# Altium integrated library Panasonic_ERJ_0402.IntLib: 878 symbols (part 1 of 17)
Pins are listed as number, name and electrical type; pins without a type are passive.

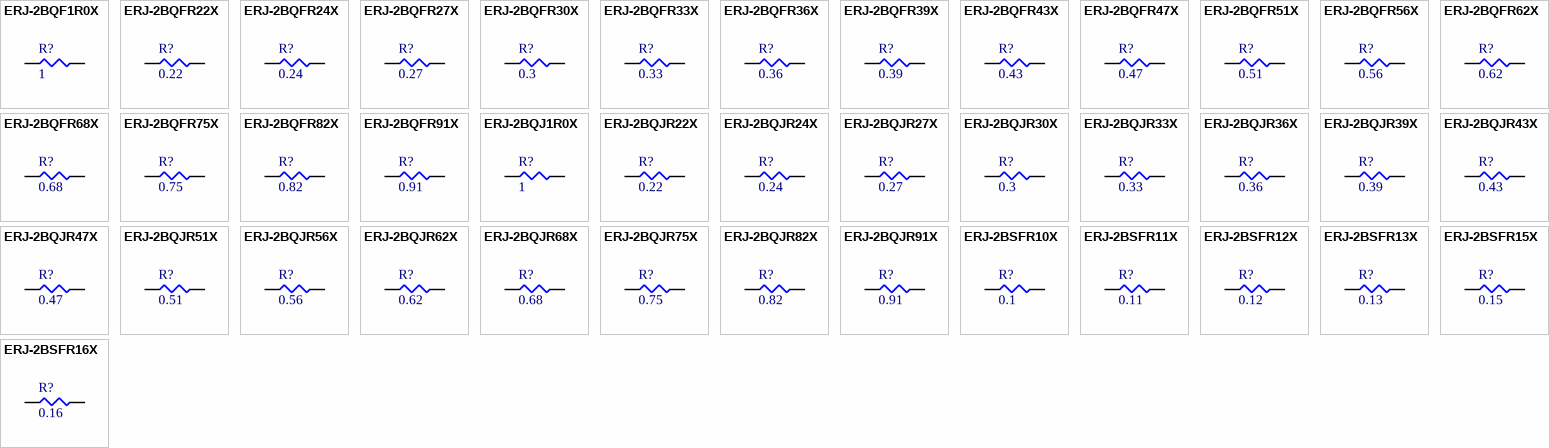
[diagram p0: symbols ERJ-2BQF1R0X to ERJ-2BSFR16X]

## ERJ-2BQF1R0X
designator R?, comment 1
RES SMD 1 OHM 1% 1/6W 0402; Part Number: ERJ-2BQF1R0X; Manufacturer: Panasonic Electronic Components; Factory Stock: 0; Unit Price (USD): 0.09843; @ qty: 1500; Power (Watts): 0.167W, 1/6W; Temperature Coefficient: ±250ppm/°C; Datasheets: https://industrial.panasonic.com/cdbs/www-data/pdf/RDA0000/AOA0000C239.pdf; Image: //media.digikey.com/Photos/Panasonic%20Photos/ERJ-PA2-Series.jpg; Digi-Key Part Number: P17252CT-ND; Quantity Available: 9090; Minimum Quantity: 1; Packaging: Cut Tape (CT); Series: ERJ; Part Status: Active; Value: 1; Tolerance: ±1%; Composition: Thick Film; Features: Automotive AEC-Q200, Current Sense; Operating Temperature: -55°C ~ 125°C; Package / Case: 0402 (1005 Metric); Supplier Device Package: 0402; Size / Dimension: 0.039" L x 0.020" W (1.00mm x 0.50mm); Height - Seated (Max): 0.016" (0.40mm); Number of Terminations: 2; Failure Rate: -
footprint SMD-0402-RES
pins: 1, 2

## ERJ-2BQFR22X
designator R?, comment 0.22
RES SMD 0.22 OHM 1% 1/6W 0402; Part Number: ERJ-2BQFR22X; Manufacturer: Panasonic Electronic Components; Factory Stock: 0; Unit Price (USD): 0.10080; @ qty: 1500; Minimum Quantity: 1; Power (Watts): 0.167W, 1/6W; Temperature Coefficient: ±250ppm/°C; Datasheets: https://industrial.panasonic.com/cdbs/www-data/pdf/RDA0000/AOA0000C239.pdf; Image: //media.digikey.com/Photos/Panasonic%20Photos/ERJ-PA2-Series.jpg; Digi-Key Part Number: P.22AKCT-ND; Quantity Available: 14922; Packaging: Cut Tape (CT); Series: ERJ; Part Status: Active; Value: 0.22; Tolerance: ±1%; Composition: Thick Film; Features: Automotive AEC-Q200, Current Sense; Operating Temperature: -55°C ~ 125°C; Package / Case: 0402 (1005 Metric); Supplier Device Package: 0402; Size / Dimension: 0.039" L x 0.020" W (1.00mm x 0.50mm); Height - Seated (Max): 0.016" (0.40mm); Number of Terminations: 2; Failure Rate: -
footprint SMD-0402-RES
pins: 1, 2

## ERJ-2BQFR24X
designator R?, comment 0.24
RES SMD 0.24 OHM 1% 1/6W 0402; Part Number: ERJ-2BQFR24X; Manufacturer: Panasonic Electronic Components; Factory Stock: 0; Unit Price (USD): 0.10080; @ qty: 1500; Minimum Quantity: 1; Power (Watts): 0.167W, 1/6W; Temperature Coefficient: ±250ppm/°C; Datasheets: https://industrial.panasonic.com/cdbs/www-data/pdf/RDA0000/AOA0000C239.pdf; Image: //media.digikey.com/Photos/Panasonic%20Photos/ERJ-PA2-Series.jpg; Digi-Key Part Number: P.24AKCT-ND; Quantity Available: 31243; Packaging: Cut Tape (CT); Series: ERJ; Part Status: Active; Value: 0.24; Tolerance: ±1%; Composition: Thick Film; Features: Automotive AEC-Q200, Current Sense; Operating Temperature: -55°C ~ 125°C; Package / Case: 0402 (1005 Metric); Supplier Device Package: 0402; Size / Dimension: 0.039" L x 0.020" W (1.00mm x 0.50mm); Height - Seated (Max): 0.016" (0.40mm); Number of Terminations: 2; Failure Rate: -
footprint SMD-0402-RES
pins: 1, 2

## ERJ-2BQFR27X
designator R?, comment 0.27
RES SMD 0.27 OHM 1% 1/6W 0402; Part Number: ERJ-2BQFR27X; Manufacturer: Panasonic Electronic Components; Factory Stock: 0; Unit Price (USD): 0.10080; @ qty: 1500; Minimum Quantity: 1; Power (Watts): 0.167W, 1/6W; Temperature Coefficient: ±250ppm/°C; Datasheets: https://industrial.panasonic.com/cdbs/www-data/pdf/RDA0000/AOA0000C239.pdf; Image: //media.digikey.com/Photos/Panasonic%20Photos/ERJ-PA2-Series.jpg; Digi-Key Part Number: P.27AKCT-ND; Quantity Available: 37382; Packaging: Cut Tape (CT); Series: ERJ; Part Status: Active; Value: 0.27; Tolerance: ±1%; Composition: Thick Film; Features: Automotive AEC-Q200, Current Sense; Operating Temperature: -55°C ~ 125°C; Package / Case: 0402 (1005 Metric); Supplier Device Package: 0402; Size / Dimension: 0.039" L x 0.020" W (1.00mm x 0.50mm); Height - Seated (Max): 0.016" (0.40mm); Number of Terminations: 2; Failure Rate: -
footprint SMD-0402-RES
pins: 1, 2

## ERJ-2BQFR30X
designator R?, comment 0.3
RES SMD 0.3 OHM 1% 1/6W 0402; Part Number: ERJ-2BQFR30X; Manufacturer: Panasonic Electronic Components; Factory Stock: 0; Unit Price (USD): 0.10080; @ qty: 1500; Minimum Quantity: 1; Power (Watts): 0.167W, 1/6W; Temperature Coefficient: ±250ppm/°C; Datasheets: https://industrial.panasonic.com/cdbs/www-data/pdf/RDA0000/AOA0000C239.pdf; Image: //media.digikey.com/Photos/Panasonic%20Photos/ERJ-PA2-Series.jpg; Digi-Key Part Number: P.30AKCT-ND; Quantity Available: 28841; Packaging: Cut Tape (CT); Series: ERJ; Part Status: Active; Value: 0.3; Tolerance: ±1%; Composition: Thick Film; Features: Automotive AEC-Q200, Current Sense; Operating Temperature: -55°C ~ 125°C; Package / Case: 0402 (1005 Metric); Supplier Device Package: 0402; Size / Dimension: 0.039" L x 0.020" W (1.00mm x 0.50mm); Height - Seated (Max): 0.016" (0.40mm); Number of Terminations: 2; Failure Rate: -
footprint SMD-0402-RES
pins: 1, 2

## ERJ-2BQFR33X
designator R?, comment 0.33
RES SMD 0.33 OHM 1% 1/6W 0402; Part Number: ERJ-2BQFR33X; Manufacturer: Panasonic Electronic Components; Factory Stock: 0; Unit Price (USD): 0.10080; @ qty: 1500; Minimum Quantity: 1; Power (Watts): 0.167W, 1/6W; Temperature Coefficient: ±250ppm/°C; Datasheets: https://industrial.panasonic.com/cdbs/www-data/pdf/RDA0000/AOA0000C239.pdf; Image: //media.digikey.com/Photos/Panasonic%20Photos/ERJ-PA2-Series.jpg; Digi-Key Part Number: P.33AKCT-ND; Quantity Available: 25648; Packaging: Cut Tape (CT); Series: ERJ; Part Status: Active; Value: 0.33; Tolerance: ±1%; Composition: Thick Film; Features: Automotive AEC-Q200, Current Sense; Operating Temperature: -55°C ~ 125°C; Package / Case: 0402 (1005 Metric); Supplier Device Package: 0402; Size / Dimension: 0.039" L x 0.020" W (1.00mm x 0.50mm); Height - Seated (Max): 0.016" (0.40mm); Number of Terminations: 2; Failure Rate: -
footprint SMD-0402-RES
pins: 1, 2

## ERJ-2BQFR36X
designator R?, comment 0.36
RES SMD 0.36 OHM 1% 1/6W 0402; Part Number: ERJ-2BQFR36X; Manufacturer: Panasonic Electronic Components; Factory Stock: 0; Unit Price (USD): 0.10080; @ qty: 1500; Minimum Quantity: 1; Power (Watts): 0.167W, 1/6W; Temperature Coefficient: ±250ppm/°C; Datasheets: https://industrial.panasonic.com/cdbs/www-data/pdf/RDA0000/AOA0000C239.pdf; Image: //media.digikey.com/Photos/Panasonic%20Photos/ERJ-PA2-Series.jpg; Digi-Key Part Number: P.36AKCT-ND; Quantity Available: 16316; Packaging: Cut Tape (CT); Series: ERJ; Part Status: Active; Value: 0.36; Tolerance: ±1%; Composition: Thick Film; Features: Automotive AEC-Q200, Current Sense; Operating Temperature: -55°C ~ 125°C; Package / Case: 0402 (1005 Metric); Supplier Device Package: 0402; Size / Dimension: 0.039" L x 0.020" W (1.00mm x 0.50mm); Height - Seated (Max): 0.016" (0.40mm); Number of Terminations: 2; Failure Rate: -
footprint SMD-0402-RES
pins: 1, 2

## ERJ-2BQFR39X
designator R?, comment 0.39
RES SMD 0.39 OHM 1% 1/6W 0402; Part Number: ERJ-2BQFR39X; Manufacturer: Panasonic Electronic Components; Factory Stock: 0; Unit Price (USD): 0.10080; @ qty: 1500; Minimum Quantity: 1; Power (Watts): 0.167W, 1/6W; Temperature Coefficient: ±250ppm/°C; Datasheets: https://industrial.panasonic.com/cdbs/www-data/pdf/RDA0000/AOA0000C239.pdf; Image: //media.digikey.com/Photos/Panasonic%20Photos/ERJ-PA2-Series.jpg; Digi-Key Part Number: P.39AKCT-ND; Quantity Available: 1142; Packaging: Cut Tape (CT); Series: ERJ; Part Status: Active; Value: 0.39; Tolerance: ±1%; Composition: Thick Film; Features: Automotive AEC-Q200, Current Sense; Operating Temperature: -55°C ~ 125°C; Package / Case: 0402 (1005 Metric); Supplier Device Package: 0402; Size / Dimension: 0.039" L x 0.020" W (1.00mm x 0.50mm); Height - Seated (Max): 0.016" (0.40mm); Number of Terminations: 2; Failure Rate: -
footprint SMD-0402-RES
pins: 1, 2

## ERJ-2BQFR43X
designator R?, comment 0.43
RES SMD 0.43 OHM 1% 1/6W 0402; Part Number: ERJ-2BQFR43X; Manufacturer: Panasonic Electronic Components; Factory Stock: 0; Unit Price (USD): 0.10080; @ qty: 1500; Minimum Quantity: 1; Power (Watts): 0.167W, 1/6W; Temperature Coefficient: ±250ppm/°C; Datasheets: https://industrial.panasonic.com/cdbs/www-data/pdf/RDA0000/AOA0000C239.pdf; Image: //media.digikey.com/Photos/Panasonic%20Photos/ERJ-PA2-Series.jpg; Digi-Key Part Number: P.43AKCT-ND; Quantity Available: 26414; Packaging: Cut Tape (CT); Series: ERJ; Part Status: Active; Value: 0.43; Tolerance: ±1%; Composition: Thick Film; Features: Automotive AEC-Q200, Current Sense; Operating Temperature: -55°C ~ 125°C; Package / Case: 0402 (1005 Metric); Supplier Device Package: 0402; Size / Dimension: 0.039" L x 0.020" W (1.00mm x 0.50mm); Height - Seated (Max): 0.016" (0.40mm); Number of Terminations: 2; Failure Rate: -
footprint SMD-0402-RES
pins: 1, 2

## ERJ-2BQFR47X
designator R?, comment 0.47
RES SMD 0.47 OHM 1% 1/6W 0402; Part Number: ERJ-2BQFR47X; Manufacturer: Panasonic Electronic Components; Factory Stock: 0; Unit Price (USD): 0.10080; @ qty: 1500; Minimum Quantity: 1; Power (Watts): 0.167W, 1/6W; Temperature Coefficient: ±250ppm/°C; Datasheets: https://industrial.panasonic.com/cdbs/www-data/pdf/RDA0000/AOA0000C239.pdf; Image: //media.digikey.com/Photos/Panasonic%20Photos/ERJ-PA2-Series.jpg; Digi-Key Part Number: P.47AKCT-ND; Quantity Available: 127209; Packaging: Cut Tape (CT); Series: ERJ; Part Status: Active; Value: 0.47; Tolerance: ±1%; Composition: Thick Film; Features: Automotive AEC-Q200, Current Sense; Operating Temperature: -55°C ~ 125°C; Package / Case: 0402 (1005 Metric); Supplier Device Package: 0402; Size / Dimension: 0.039" L x 0.020" W (1.00mm x 0.50mm); Height - Seated (Max): 0.016" (0.40mm); Number of Terminations: 2; Failure Rate: -
footprint SMD-0402-RES
pins: 1, 2

## ERJ-2BQFR51X
designator R?, comment 0.51
RES SMD 0.51 OHM 1% 1/6W 0402; Part Number: ERJ-2BQFR51X; Manufacturer: Panasonic Electronic Components; Factory Stock: 0; Unit Price (USD): 0.10080; @ qty: 1500; Minimum Quantity: 1; Power (Watts): 0.167W, 1/6W; Temperature Coefficient: ±250ppm/°C; Datasheets: https://industrial.panasonic.com/cdbs/www-data/pdf/RDA0000/AOA0000C239.pdf; Image: //media.digikey.com/Photos/Panasonic%20Photos/ERJ-PA2-Series.jpg; Digi-Key Part Number: P.51AKCT-ND; Quantity Available: 5607; Packaging: Cut Tape (CT); Series: ERJ; Part Status: Active; Value: 0.51; Tolerance: ±1%; Composition: Thick Film; Features: Automotive AEC-Q200, Current Sense; Operating Temperature: -55°C ~ 125°C; Package / Case: 0402 (1005 Metric); Supplier Device Package: 0402; Size / Dimension: 0.039" L x 0.020" W (1.00mm x 0.50mm); Height - Seated (Max): 0.016" (0.40mm); Number of Terminations: 2; Failure Rate: -
footprint SMD-0402-RES
pins: 1, 2

## ERJ-2BQFR56X
designator R?, comment 0.56
RES SMD 0.56 OHM 1% 1/6W 0402; Part Number: ERJ-2BQFR56X; Manufacturer: Panasonic Electronic Components; Factory Stock: 0; Unit Price (USD): 0.10080; @ qty: 1500; Minimum Quantity: 1; Power (Watts): 0.167W, 1/6W; Temperature Coefficient: ±250ppm/°C; Datasheets: https://industrial.panasonic.com/cdbs/www-data/pdf/RDA0000/AOA0000C239.pdf; Image: //media.digikey.com/Photos/Panasonic%20Photos/ERJ-PA2-Series.jpg; Digi-Key Part Number: P.56AKCT-ND; Quantity Available: 5983; Packaging: Cut Tape (CT); Series: ERJ; Part Status: Active; Value: 0.56; Tolerance: ±1%; Composition: Thick Film; Features: Automotive AEC-Q200, Current Sense; Operating Temperature: -55°C ~ 125°C; Package / Case: 0402 (1005 Metric); Supplier Device Package: 0402; Size / Dimension: 0.039" L x 0.020" W (1.00mm x 0.50mm); Height - Seated (Max): 0.016" (0.40mm); Number of Terminations: 2; Failure Rate: -
footprint SMD-0402-RES
pins: 1, 2

## ERJ-2BQFR62X
designator R?, comment 0.62
RES SMD 0.62 OHM 1% 1/6W 0402; Part Number: ERJ-2BQFR62X; Manufacturer: Panasonic Electronic Components; Factory Stock: 0; Unit Price (USD): 0.10080; @ qty: 1500; Minimum Quantity: 1; Power (Watts): 0.167W, 1/6W; Temperature Coefficient: ±250ppm/°C; Datasheets: https://industrial.panasonic.com/cdbs/www-data/pdf/RDA0000/AOA0000C239.pdf; Image: //media.digikey.com/Photos/Panasonic%20Photos/ERJ-PA2-Series.jpg; Digi-Key Part Number: P.62AKCT-ND; Quantity Available: 5869; Packaging: Cut Tape (CT); Series: ERJ; Part Status: Active; Value: 0.62; Tolerance: ±1%; Composition: Thick Film; Features: Automotive AEC-Q200, Current Sense; Operating Temperature: -55°C ~ 125°C; Package / Case: 0402 (1005 Metric); Supplier Device Package: 0402; Size / Dimension: 0.039" L x 0.020" W (1.00mm x 0.50mm); Height - Seated (Max): 0.016" (0.40mm); Number of Terminations: 2; Failure Rate: -
footprint SMD-0402-RES
pins: 1, 2

## ERJ-2BQFR68X
designator R?, comment 0.68
RES SMD 0.68 OHM 1% 1/6W 0402; Part Number: ERJ-2BQFR68X; Manufacturer: Panasonic Electronic Components; Factory Stock: 0; Unit Price (USD): 0.10080; @ qty: 1500; Minimum Quantity: 1; Power (Watts): 0.167W, 1/6W; Temperature Coefficient: ±250ppm/°C; Datasheets: https://industrial.panasonic.com/cdbs/www-data/pdf/RDA0000/AOA0000C239.pdf; Image: //media.digikey.com/Photos/Panasonic%20Photos/ERJ-PA2-Series.jpg; Digi-Key Part Number: P.68AKCT-ND; Quantity Available: 10734; Packaging: Cut Tape (CT); Series: ERJ; Part Status: Active; Value: 0.68; Tolerance: ±1%; Composition: Thick Film; Features: Automotive AEC-Q200, Current Sense; Operating Temperature: -55°C ~ 125°C; Package / Case: 0402 (1005 Metric); Supplier Device Package: 0402; Size / Dimension: 0.039" L x 0.020" W (1.00mm x 0.50mm); Height - Seated (Max): 0.016" (0.40mm); Number of Terminations: 2; Failure Rate: -
footprint SMD-0402-RES
pins: 1, 2

## ERJ-2BQFR75X
designator R?, comment 0.75
RES SMD 0.75 OHM 1% 1/6W 0402; Part Number: ERJ-2BQFR75X; Manufacturer: Panasonic Electronic Components; Factory Stock: 0; Unit Price (USD): 0.10080; @ qty: 1500; Minimum Quantity: 1; Power (Watts): 0.167W, 1/6W; Temperature Coefficient: ±250ppm/°C; Datasheets: https://industrial.panasonic.com/cdbs/www-data/pdf/RDA0000/AOA0000C239.pdf; Image: //media.digikey.com/Photos/Panasonic%20Photos/ERJ-PA2-Series.jpg; Digi-Key Part Number: P.75AKCT-ND; Quantity Available: 27047; Packaging: Cut Tape (CT); Series: ERJ; Part Status: Active; Value: 0.75; Tolerance: ±1%; Composition: Thick Film; Features: Automotive AEC-Q200, Current Sense; Operating Temperature: -55°C ~ 125°C; Package / Case: 0402 (1005 Metric); Supplier Device Package: 0402; Size / Dimension: 0.039" L x 0.020" W (1.00mm x 0.50mm); Height - Seated (Max): 0.016" (0.40mm); Number of Terminations: 2; Failure Rate: -
footprint SMD-0402-RES
pins: 1, 2

## ERJ-2BQFR82X
designator R?, comment 0.82
RES SMD 0.82 OHM 1% 1/6W 0402; Part Number: ERJ-2BQFR82X; Manufacturer: Panasonic Electronic Components; Factory Stock: 0; Unit Price (USD): 0.10080; @ qty: 1500; Minimum Quantity: 1; Power (Watts): 0.167W, 1/6W; Temperature Coefficient: ±250ppm/°C; Datasheets: https://industrial.panasonic.com/cdbs/www-data/pdf/RDA0000/AOA0000C239.pdf; Image: //media.digikey.com/Photos/Panasonic%20Photos/ERJ-PA2-Series.jpg; Digi-Key Part Number: P.82AKCT-ND; Quantity Available: 10656; Packaging: Cut Tape (CT); Series: ERJ; Part Status: Active; Value: 0.82; Tolerance: ±1%; Composition: Thick Film; Features: Automotive AEC-Q200, Current Sense; Operating Temperature: -55°C ~ 125°C; Package / Case: 0402 (1005 Metric); Supplier Device Package: 0402; Size / Dimension: 0.039" L x 0.020" W (1.00mm x 0.50mm); Height - Seated (Max): 0.016" (0.40mm); Number of Terminations: 2; Failure Rate: -
footprint SMD-0402-RES
pins: 1, 2

## ERJ-2BQFR91X
designator R?, comment 0.91
RES SMD 0.91 OHM 1% 1/6W 0402; Part Number: ERJ-2BQFR91X; Manufacturer: Panasonic Electronic Components; Factory Stock: 0; Unit Price (USD): 0.10080; @ qty: 1500; Minimum Quantity: 1; Power (Watts): 0.167W, 1/6W; Temperature Coefficient: ±250ppm/°C; Datasheets: https://industrial.panasonic.com/cdbs/www-data/pdf/RDA0000/AOA0000C239.pdf; Image: //media.digikey.com/Photos/Panasonic%20Photos/ERJ-PA2-Series.jpg; Digi-Key Part Number: P.91AKCT-ND; Quantity Available: 19708; Packaging: Cut Tape (CT); Series: ERJ; Part Status: Active; Value: 0.91; Tolerance: ±1%; Composition: Thick Film; Features: Automotive AEC-Q200, Current Sense; Operating Temperature: -55°C ~ 125°C; Package / Case: 0402 (1005 Metric); Supplier Device Package: 0402; Size / Dimension: 0.039" L x 0.020" W (1.00mm x 0.50mm); Height - Seated (Max): 0.016" (0.40mm); Number of Terminations: 2; Failure Rate: -
footprint SMD-0402-RES
pins: 1, 2

## ERJ-2BQJ1R0X
designator R?, comment 1
RES SMD 1 OHM 5% 1/6W 0402; Part Number: ERJ-2BQJ1R0X; Manufacturer: Panasonic Electronic Components; Factory Stock: 0; Unit Price (USD): 0.04185; @ qty: 1500; Power (Watts): 0.167W, 1/6W; Temperature Coefficient: ±250ppm/°C; Datasheets: https://industrial.panasonic.com/cdbs/www-data/pdf/RDA0000/AOA0000C239.pdf; Image: //media.digikey.com/Photos/Panasonic%20Photos/ERJ-PA2-Series.jpg; Digi-Key Part Number: P17343CT-ND; Quantity Available: 21705; Minimum Quantity: 1; Packaging: Cut Tape (CT); Series: ERJ; Part Status: Active; Value: 1; Tolerance: ±5%; Composition: Thick Film; Features: Automotive AEC-Q200, Current Sense; Operating Temperature: -55°C ~ 125°C; Package / Case: 0402 (1005 Metric); Supplier Device Package: 0402; Size / Dimension: 0.039" L x 0.020" W (1.00mm x 0.50mm); Height - Seated (Max): 0.016" (0.40mm); Number of Terminations: 2; Failure Rate: -
footprint SMD-0402-RES
pins: 1, 2

## ERJ-2BQJR22X
designator R?, comment 0.22
RES SMD 0.22 OHM 5% 1/6W 0402; Part Number: ERJ-2BQJR22X; Manufacturer: Panasonic Electronic Components; Factory Stock: 0; Unit Price (USD): 0.04185; @ qty: 1500; Minimum Quantity: 1; Power (Watts): 0.167W, 1/6W; Temperature Coefficient: ±250ppm/°C; Datasheets: https://industrial.panasonic.com/cdbs/www-data/pdf/RDA0000/AOA0000C239.pdf; Image: //media.digikey.com/Photos/Panasonic%20Photos/ERJ-PA2-Series.jpg; Digi-Key Part Number: P17344CT-ND; Quantity Available: 6625; Packaging: Cut Tape (CT); Series: ERJ; Part Status: Active; Value: 0.22; Tolerance: ±5%; Composition: Thick Film; Features: Automotive AEC-Q200, Current Sense; Operating Temperature: -55°C ~ 125°C; Package / Case: 0402 (1005 Metric); Supplier Device Package: 0402; Size / Dimension: 0.039" L x 0.020" W (1.00mm x 0.50mm); Height - Seated (Max): 0.016" (0.40mm); Number of Terminations: 2; Failure Rate: -
footprint SMD-0402-RES
pins: 1, 2

## ERJ-2BQJR24X
designator R?, comment 0.24
RES SMD 0.24 OHM 5% 1/6W 0402; Part Number: ERJ-2BQJR24X; Manufacturer: Panasonic Electronic Components; Factory Stock: 0; Unit Price (USD): 0.04185; @ qty: 1500; Minimum Quantity: 1; Power (Watts): 0.167W, 1/6W; Temperature Coefficient: ±250ppm/°C; Datasheets: https://industrial.panasonic.com/cdbs/www-data/pdf/RDA0000/AOA0000C239.pdf; Image: //media.digikey.com/Photos/Panasonic%20Photos/ERJ-PA2-Series.jpg; Digi-Key Part Number: P17345CT-ND; Quantity Available: 9600; Packaging: Cut Tape (CT); Series: ERJ; Part Status: Active; Value: 0.24; Tolerance: ±5%; Composition: Thick Film; Features: Automotive AEC-Q200, Current Sense; Operating Temperature: -55°C ~ 125°C; Package / Case: 0402 (1005 Metric); Supplier Device Package: 0402; Size / Dimension: 0.039" L x 0.020" W (1.00mm x 0.50mm); Height - Seated (Max): 0.016" (0.40mm); Number of Terminations: 2; Failure Rate: -
footprint SMD-0402-RES
pins: 1, 2

## ERJ-2BQJR27X
designator R?, comment 0.27
RES SMD 0.27 OHM 5% 1/6W 0402; Part Number: ERJ-2BQJR27X; Manufacturer: Panasonic Electronic Components; Factory Stock: 0; Unit Price (USD): 0.04185; @ qty: 1500; Minimum Quantity: 1; Power (Watts): 0.167W, 1/6W; Temperature Coefficient: ±250ppm/°C; Datasheets: https://industrial.panasonic.com/cdbs/www-data/pdf/RDA0000/AOA0000C239.pdf; Image: //media.digikey.com/Photos/Panasonic%20Photos/ERJ-PA2-Series.jpg; Digi-Key Part Number: P17346CT-ND; Quantity Available: 9950; Packaging: Cut Tape (CT); Series: ERJ; Part Status: Active; Value: 0.27; Tolerance: ±5%; Composition: Thick Film; Features: Automotive AEC-Q200, Current Sense; Operating Temperature: -55°C ~ 125°C; Package / Case: 0402 (1005 Metric); Supplier Device Package: 0402; Size / Dimension: 0.039" L x 0.020" W (1.00mm x 0.50mm); Height - Seated (Max): 0.016" (0.40mm); Number of Terminations: 2; Failure Rate: -
footprint SMD-0402-RES
pins: 1, 2

## ERJ-2BQJR30X
designator R?, comment 0.3
RES SMD 0.3 OHM 5% 1/6W 0402; Part Number: ERJ-2BQJR30X; Manufacturer: Panasonic Electronic Components; Factory Stock: 0; Unit Price (USD): 0.04185; @ qty: 1500; Minimum Quantity: 1; Power (Watts): 0.167W, 1/6W; Temperature Coefficient: ±250ppm/°C; Datasheets: https://industrial.panasonic.com/cdbs/www-data/pdf/RDA0000/AOA0000C239.pdf; Image: //media.digikey.com/Photos/Panasonic%20Photos/ERJ-PA2-Series.jpg; Digi-Key Part Number: P17347CT-ND; Quantity Available: 10000; Packaging: Cut Tape (CT); Series: ERJ; Part Status: Active; Value: 0.3; Tolerance: ±5%; Composition: Thick Film; Features: Automotive AEC-Q200, Current Sense; Operating Temperature: -55°C ~ 125°C; Package / Case: 0402 (1005 Metric); Supplier Device Package: 0402; Size / Dimension: 0.039" L x 0.020" W (1.00mm x 0.50mm); Height - Seated (Max): 0.016" (0.40mm); Number of Terminations: 2; Failure Rate: -
footprint SMD-0402-RES
pins: 1, 2

## ERJ-2BQJR33X
designator R?, comment 0.33
RES SMD 0.33 OHM 5% 1/6W 0402; Part Number: ERJ-2BQJR33X; Manufacturer: Panasonic Electronic Components; Factory Stock: 0; Unit Price (USD): 0.04185; @ qty: 1500; Minimum Quantity: 1; Power (Watts): 0.167W, 1/6W; Temperature Coefficient: ±250ppm/°C; Datasheets: https://industrial.panasonic.com/cdbs/www-data/pdf/RDA0000/AOA0000C239.pdf; Image: //media.digikey.com/Photos/Panasonic%20Photos/ERJ-PA2-Series.jpg; Digi-Key Part Number: P17348CT-ND; Quantity Available: 8880; Packaging: Cut Tape (CT); Series: ERJ; Part Status: Active; Value: 0.33; Tolerance: ±5%; Composition: Thick Film; Features: Automotive AEC-Q200, Current Sense; Operating Temperature: -55°C ~ 125°C; Package / Case: 0402 (1005 Metric); Supplier Device Package: 0402; Size / Dimension: 0.039" L x 0.020" W (1.00mm x 0.50mm); Height - Seated (Max): 0.016" (0.40mm); Number of Terminations: 2; Failure Rate: -
footprint SMD-0402-RES
pins: 1, 2

## ERJ-2BQJR36X
designator R?, comment 0.36
RES SMD 0.36 OHM 5% 1/6W 0402; Part Number: ERJ-2BQJR36X; Manufacturer: Panasonic Electronic Components; Factory Stock: 0; Unit Price (USD): 0.04185; @ qty: 1500; Minimum Quantity: 1; Power (Watts): 0.167W, 1/6W; Temperature Coefficient: ±250ppm/°C; Datasheets: https://industrial.panasonic.com/cdbs/www-data/pdf/RDA0000/AOA0000C239.pdf; Image: //media.digikey.com/Photos/Panasonic%20Photos/ERJ-PA2-Series.jpg; Digi-Key Part Number: P17349CT-ND; Quantity Available: 9890; Packaging: Cut Tape (CT); Series: ERJ; Part Status: Active; Value: 0.36; Tolerance: ±5%; Composition: Thick Film; Features: Automotive AEC-Q200, Current Sense; Operating Temperature: -55°C ~ 125°C; Package / Case: 0402 (1005 Metric); Supplier Device Package: 0402; Size / Dimension: 0.039" L x 0.020" W (1.00mm x 0.50mm); Height - Seated (Max): 0.016" (0.40mm); Number of Terminations: 2; Failure Rate: -
footprint SMD-0402-RES
pins: 1, 2

## ERJ-2BQJR39X
designator R?, comment 0.39
RES SMD 0.39 OHM 5% 1/6W 0402; Part Number: ERJ-2BQJR39X; Manufacturer: Panasonic Electronic Components; Factory Stock: 0; Unit Price (USD): 0.04185; @ qty: 1500; Minimum Quantity: 1; Power (Watts): 0.167W, 1/6W; Temperature Coefficient: ±250ppm/°C; Datasheets: https://industrial.panasonic.com/cdbs/www-data/pdf/RDA0000/AOA0000C239.pdf; Image: //media.digikey.com/Photos/Panasonic%20Photos/ERJ-PA2-Series.jpg; Digi-Key Part Number: P17244CT-ND; Quantity Available: 8930; Packaging: Cut Tape (CT); Series: ERJ; Part Status: Active; Value: 0.39; Tolerance: ±5%; Composition: Thick Film; Features: Automotive AEC-Q200, Current Sense; Operating Temperature: -55°C ~ 125°C; Package / Case: 0402 (1005 Metric); Supplier Device Package: 0402; Size / Dimension: 0.039" L x 0.020" W (1.00mm x 0.50mm); Height - Seated (Max): 0.016" (0.40mm); Number of Terminations: 2; Failure Rate: -
footprint SMD-0402-RES
pins: 1, 2

## ERJ-2BQJR43X
designator R?, comment 0.43
RES SMD 0.43 OHM 5% 1/6W 0402; Part Number: ERJ-2BQJR43X; Manufacturer: Panasonic Electronic Components; Factory Stock: 0; Unit Price (USD): 0.04185; @ qty: 1500; Minimum Quantity: 1; Power (Watts): 0.167W, 1/6W; Temperature Coefficient: ±250ppm/°C; Datasheets: https://industrial.panasonic.com/cdbs/www-data/pdf/RDA0000/AOA0000C239.pdf; Image: //media.digikey.com/Photos/Panasonic%20Photos/ERJ-PA2-Series.jpg; Digi-Key Part Number: P17350CT-ND; Quantity Available: 9940; Packaging: Cut Tape (CT); Series: ERJ; Part Status: Active; Value: 0.43; Tolerance: ±5%; Composition: Thick Film; Features: Automotive AEC-Q200, Current Sense; Operating Temperature: -55°C ~ 125°C; Package / Case: 0402 (1005 Metric); Supplier Device Package: 0402; Size / Dimension: 0.039" L x 0.020" W (1.00mm x 0.50mm); Height - Seated (Max): 0.016" (0.40mm); Number of Terminations: 2; Failure Rate: -
footprint SMD-0402-RES
pins: 1, 2

## ERJ-2BQJR47X
designator R?, comment 0.47
RES SMD 0.47 OHM 5% 1/6W 0402; Part Number: ERJ-2BQJR47X; Manufacturer: Panasonic Electronic Components; Factory Stock: 0; Unit Price (USD): 0.04185; @ qty: 1500; Minimum Quantity: 1; Power (Watts): 0.167W, 1/6W; Temperature Coefficient: ±250ppm/°C; Datasheets: https://industrial.panasonic.com/cdbs/www-data/pdf/RDA0000/AOA0000C239.pdf; Image: //media.digikey.com/Photos/Panasonic%20Photos/ERJ-PA2-Series.jpg; Digi-Key Part Number: P17351CT-ND; Quantity Available: 7950; Packaging: Cut Tape (CT); Series: ERJ; Part Status: Active; Value: 0.47; Tolerance: ±5%; Composition: Thick Film; Features: Automotive AEC-Q200, Current Sense; Operating Temperature: -55°C ~ 125°C; Package / Case: 0402 (1005 Metric); Supplier Device Package: 0402; Size / Dimension: 0.039" L x 0.020" W (1.00mm x 0.50mm); Height - Seated (Max): 0.016" (0.40mm); Number of Terminations: 2; Failure Rate: -
footprint SMD-0402-RES
pins: 1, 2

## ERJ-2BQJR51X
designator R?, comment 0.51
RES SMD 0.51 OHM 5% 1/6W 0402; Part Number: ERJ-2BQJR51X; Manufacturer: Panasonic Electronic Components; Factory Stock: 0; Unit Price (USD): 0.04185; @ qty: 1500; Minimum Quantity: 1; Power (Watts): 0.167W, 1/6W; Temperature Coefficient: ±250ppm/°C; Datasheets: https://industrial.panasonic.com/cdbs/www-data/pdf/RDA0000/AOA0000C239.pdf; Image: //media.digikey.com/Photos/Panasonic%20Photos/ERJ-PA2-Series.jpg; Digi-Key Part Number: P17352CT-ND; Quantity Available: 13205; Packaging: Cut Tape (CT); Series: ERJ; Part Status: Active; Value: 0.51; Tolerance: ±5%; Composition: Thick Film; Features: Automotive AEC-Q200, Current Sense; Operating Temperature: -55°C ~ 125°C; Package / Case: 0402 (1005 Metric); Supplier Device Package: 0402; Size / Dimension: 0.039" L x 0.020" W (1.00mm x 0.50mm); Height - Seated (Max): 0.016" (0.40mm); Number of Terminations: 2; Failure Rate: -
footprint SMD-0402-RES
pins: 1, 2

## ERJ-2BQJR56X
designator R?, comment 0.56
RES SMD 0.56 OHM 5% 1/6W 0402; Part Number: ERJ-2BQJR56X; Manufacturer: Panasonic Electronic Components; Factory Stock: 0; Unit Price (USD): 0.04185; @ qty: 1500; Minimum Quantity: 1; Power (Watts): 0.167W, 1/6W; Temperature Coefficient: ±250ppm/°C; Datasheets: https://industrial.panasonic.com/cdbs/www-data/pdf/RDA0000/AOA0000C239.pdf; Image: //media.digikey.com/Photos/Panasonic%20Photos/ERJ-PA2-Series.jpg; Digi-Key Part Number: P17353CT-ND; Quantity Available: 10000; Packaging: Cut Tape (CT); Series: ERJ; Part Status: Active; Value: 0.56; Tolerance: ±5%; Composition: Thick Film; Features: Automotive AEC-Q200, Current Sense; Operating Temperature: -55°C ~ 125°C; Package / Case: 0402 (1005 Metric); Supplier Device Package: 0402; Size / Dimension: 0.039" L x 0.020" W (1.00mm x 0.50mm); Height - Seated (Max): 0.016" (0.40mm); Number of Terminations: 2; Failure Rate: -
footprint SMD-0402-RES
pins: 1, 2

## ERJ-2BQJR62X
designator R?, comment 0.62
RES SMD 0.62 OHM 5% 1/6W 0402; Part Number: ERJ-2BQJR62X; Manufacturer: Panasonic Electronic Components; Factory Stock: 0; Unit Price (USD): 0.04185; @ qty: 1500; Minimum Quantity: 1; Power (Watts): 0.167W, 1/6W; Temperature Coefficient: ±250ppm/°C; Datasheets: https://industrial.panasonic.com/cdbs/www-data/pdf/RDA0000/AOA0000C239.pdf; Image: //media.digikey.com/Photos/Panasonic%20Photos/ERJ-PA2-Series.jpg; Digi-Key Part Number: P17354CT-ND; Quantity Available: 9565; Packaging: Cut Tape (CT); Series: ERJ; Part Status: Active; Value: 0.62; Tolerance: ±5%; Composition: Thick Film; Features: Automotive AEC-Q200, Current Sense; Operating Temperature: -55°C ~ 125°C; Package / Case: 0402 (1005 Metric); Supplier Device Package: 0402; Size / Dimension: 0.039" L x 0.020" W (1.00mm x 0.50mm); Height - Seated (Max): 0.016" (0.40mm); Number of Terminations: 2; Failure Rate: -
footprint SMD-0402-RES
pins: 1, 2

## ERJ-2BQJR68X
designator R?, comment 0.68
RES SMD 0.68 OHM 5% 1/6W 0402; Part Number: ERJ-2BQJR68X; Manufacturer: Panasonic Electronic Components; Factory Stock: 0; Unit Price (USD): 0.04185; @ qty: 1500; Minimum Quantity: 1; Power (Watts): 0.167W, 1/6W; Temperature Coefficient: ±250ppm/°C; Datasheets: https://industrial.panasonic.com/cdbs/www-data/pdf/RDA0000/AOA0000C239.pdf; Image: //media.digikey.com/Photos/Panasonic%20Photos/ERJ-PA2-Series.jpg; Digi-Key Part Number: P17355CT-ND; Quantity Available: 9900; Packaging: Cut Tape (CT); Series: ERJ; Part Status: Active; Value: 0.68; Tolerance: ±5%; Composition: Thick Film; Features: Automotive AEC-Q200, Current Sense; Operating Temperature: -55°C ~ 125°C; Package / Case: 0402 (1005 Metric); Supplier Device Package: 0402; Size / Dimension: 0.039" L x 0.020" W (1.00mm x 0.50mm); Height - Seated (Max): 0.016" (0.40mm); Number of Terminations: 2; Failure Rate: -
footprint SMD-0402-RES
pins: 1, 2

## ERJ-2BQJR75X
designator R?, comment 0.75
RES SMD 0.75 OHM 5% 1/6W 0402; Part Number: ERJ-2BQJR75X; Manufacturer: Panasonic Electronic Components; Factory Stock: 0; Unit Price (USD): 0.04185; @ qty: 1500; Minimum Quantity: 1; Power (Watts): 0.167W, 1/6W; Temperature Coefficient: ±250ppm/°C; Datasheets: https://industrial.panasonic.com/cdbs/www-data/pdf/RDA0000/AOA0000C239.pdf; Image: //media.digikey.com/Photos/Panasonic%20Photos/ERJ-PA2-Series.jpg; Digi-Key Part Number: P17356CT-ND; Quantity Available: 9840; Packaging: Cut Tape (CT); Series: ERJ; Part Status: Active; Value: 0.75; Tolerance: ±5%; Composition: Thick Film; Features: Automotive AEC-Q200, Current Sense; Operating Temperature: -55°C ~ 125°C; Package / Case: 0402 (1005 Metric); Supplier Device Package: 0402; Size / Dimension: 0.039" L x 0.020" W (1.00mm x 0.50mm); Height - Seated (Max): 0.016" (0.40mm); Number of Terminations: 2; Failure Rate: -
footprint SMD-0402-RES
pins: 1, 2

## ERJ-2BQJR82X
designator R?, comment 0.82
RES SMD 0.82 OHM 5% 1/6W 0402; Part Number: ERJ-2BQJR82X; Manufacturer: Panasonic Electronic Components; Factory Stock: 0; Unit Price (USD): 0.04185; @ qty: 1500; Minimum Quantity: 1; Power (Watts): 0.167W, 1/6W; Temperature Coefficient: ±250ppm/°C; Datasheets: https://industrial.panasonic.com/cdbs/www-data/pdf/RDA0000/AOA0000C239.pdf; Image: //media.digikey.com/Photos/Panasonic%20Photos/ERJ-PA2-Series.jpg; Digi-Key Part Number: P17357CT-ND; Quantity Available: 9850; Packaging: Cut Tape (CT); Series: ERJ; Part Status: Active; Value: 0.82; Tolerance: ±5%; Composition: Thick Film; Features: Automotive AEC-Q200, Current Sense; Operating Temperature: -55°C ~ 125°C; Package / Case: 0402 (1005 Metric); Supplier Device Package: 0402; Size / Dimension: 0.039" L x 0.020" W (1.00mm x 0.50mm); Height - Seated (Max): 0.016" (0.40mm); Number of Terminations: 2; Failure Rate: -
footprint SMD-0402-RES
pins: 1, 2

## ERJ-2BQJR91X
designator R?, comment 0.91
RES SMD 0.91 OHM 5% 1/6W 0402; Part Number: ERJ-2BQJR91X; Manufacturer: Panasonic Electronic Components; Factory Stock: 0; Unit Price (USD): 0.04185; @ qty: 1500; Minimum Quantity: 1; Power (Watts): 0.167W, 1/6W; Temperature Coefficient: ±250ppm/°C; Datasheets: https://industrial.panasonic.com/cdbs/www-data/pdf/RDA0000/AOA0000C239.pdf; Image: //media.digikey.com/Photos/Panasonic%20Photos/ERJ-PA2-Series.jpg; Digi-Key Part Number: P17358CT-ND; Quantity Available: 9835; Packaging: Cut Tape (CT); Series: ERJ; Part Status: Active; Value: 0.91; Tolerance: ±5%; Composition: Thick Film; Features: Automotive AEC-Q200, Current Sense; Operating Temperature: -55°C ~ 125°C; Package / Case: 0402 (1005 Metric); Supplier Device Package: 0402; Size / Dimension: 0.039" L x 0.020" W (1.00mm x 0.50mm); Height - Seated (Max): 0.016" (0.40mm); Number of Terminations: 2; Failure Rate: -
footprint SMD-0402-RES
pins: 1, 2

## ERJ-2BSFR10X
designator R?, comment 0.1
RES SMD 0.1 OHM 1% 1/6W 0402; Part Number: ERJ-2BSFR10X; Manufacturer: Panasonic Electronic Components; Factory Stock: 0; Unit Price (USD): 0.10632; @ qty: 1500; Minimum Quantity: 1; Power (Watts): 0.167W, 1/6W; Temperature Coefficient: ±300ppm/°C; Datasheets: https://industrial.panasonic.com/cdbs/www-data/pdf/RDA0000/AOA0000C239.pdf; Image: //media.digikey.com/Photos/Panasonic%20Photos/ERJ-PA2-Series.jpg; Digi-Key Part Number: P.10AKCT-ND; Quantity Available: 146306; Packaging: Cut Tape (CT); Series: ERJ; Part Status: Active; Value: 0.1; Tolerance: ±1%; Composition: Thick Film; Features: Automotive AEC-Q200, Current Sense; Operating Temperature: -55°C ~ 125°C; Package / Case: 0402 (1005 Metric); Supplier Device Package: 0402; Size / Dimension: 0.039" L x 0.020" W (1.00mm x 0.50mm); Height - Seated (Max): 0.016" (0.40mm); Number of Terminations: 2; Failure Rate: -
footprint SMD-0402-RES
pins: 1, 2

## ERJ-2BSFR11X
designator R?, comment 0.11
RES SMD 0.11 OHM 1% 1/6W 0402; Part Number: ERJ-2BSFR11X; Manufacturer: Panasonic Electronic Components; Factory Stock: 0; Unit Price (USD): 0.10632; @ qty: 1500; Minimum Quantity: 1; Power (Watts): 0.167W, 1/6W; Temperature Coefficient: ±300ppm/°C; Datasheets: https://industrial.panasonic.com/cdbs/www-data/pdf/RDA0000/AOA0000C239.pdf; Image: //media.digikey.com/Photos/Panasonic%20Photos/ERJ-PA2-Series.jpg; Digi-Key Part Number: P.11AKCT-ND; Quantity Available: 9397; Packaging: Cut Tape (CT); Series: ERJ; Part Status: Active; Value: 0.11; Tolerance: ±1%; Composition: Thick Film; Features: Automotive AEC-Q200, Current Sense; Operating Temperature: -55°C ~ 125°C; Package / Case: 0402 (1005 Metric); Supplier Device Package: 0402; Size / Dimension: 0.039" L x 0.020" W (1.00mm x 0.50mm); Height - Seated (Max): 0.016" (0.40mm); Number of Terminations: 2; Failure Rate: -
footprint SMD-0402-RES
pins: 1, 2

## ERJ-2BSFR12X
designator R?, comment 0.12
RES SMD 0.12 OHM 1% 1/6W 0402; Part Number: ERJ-2BSFR12X; Manufacturer: Panasonic Electronic Components; Factory Stock: 0; Unit Price (USD): 0.10632; @ qty: 1500; Minimum Quantity: 1; Power (Watts): 0.167W, 1/6W; Temperature Coefficient: ±300ppm/°C; Datasheets: https://industrial.panasonic.com/cdbs/www-data/pdf/RDA0000/AOA0000C239.pdf; Image: //media.digikey.com/Photos/Panasonic%20Photos/ERJ-PA2-Series.jpg; Digi-Key Part Number: P.12AKCT-ND; Quantity Available: 13671; Packaging: Cut Tape (CT); Series: ERJ; Part Status: Active; Value: 0.12; Tolerance: ±1%; Composition: Thick Film; Features: Automotive AEC-Q200, Current Sense; Operating Temperature: -55°C ~ 125°C; Package / Case: 0402 (1005 Metric); Supplier Device Package: 0402; Size / Dimension: 0.039" L x 0.020" W (1.00mm x 0.50mm); Height - Seated (Max): 0.016" (0.40mm); Number of Terminations: 2; Failure Rate: -
footprint SMD-0402-RES
pins: 1, 2

## ERJ-2BSFR13X
designator R?, comment 0.13
RES SMD 0.13 OHM 1% 1/6W 0402; Part Number: ERJ-2BSFR13X; Manufacturer: Panasonic Electronic Components; Factory Stock: 0; Unit Price (USD): 0.10632; @ qty: 1500; Minimum Quantity: 1; Power (Watts): 0.167W, 1/6W; Temperature Coefficient: ±300ppm/°C; Datasheets: https://industrial.panasonic.com/cdbs/www-data/pdf/RDA0000/AOA0000C239.pdf; Image: //media.digikey.com/Photos/Panasonic%20Photos/ERJ-PA2-Series.jpg; Digi-Key Part Number: P.13AKCT-ND; Quantity Available: 5705; Packaging: Cut Tape (CT); Series: ERJ; Part Status: Active; Value: 0.13; Tolerance: ±1%; Composition: Thick Film; Features: Automotive AEC-Q200, Current Sense; Operating Temperature: -55°C ~ 125°C; Package / Case: 0402 (1005 Metric); Supplier Device Package: 0402; Size / Dimension: 0.039" L x 0.020" W (1.00mm x 0.50mm); Height - Seated (Max): 0.016" (0.40mm); Number of Terminations: 2; Failure Rate: -
footprint SMD-0402-RES
pins: 1, 2

## ERJ-2BSFR15X
designator R?, comment 0.15
RES SMD 0.15 OHM 1% 1/6W 0402; Part Number: ERJ-2BSFR15X; Manufacturer: Panasonic Electronic Components; Factory Stock: 0; Unit Price (USD): 0.10632; @ qty: 1500; Minimum Quantity: 1; Power (Watts): 0.167W, 1/6W; Temperature Coefficient: ±300ppm/°C; Datasheets: https://industrial.panasonic.com/cdbs/www-data/pdf/RDA0000/AOA0000C239.pdf; Image: //media.digikey.com/Photos/Panasonic%20Photos/ERJ-PA2-Series.jpg; Digi-Key Part Number: P.15AKCT-ND; Quantity Available: 26397; Packaging: Cut Tape (CT); Series: ERJ; Part Status: Active; Value: 0.15; Tolerance: ±1%; Composition: Thick Film; Features: Automotive AEC-Q200, Current Sense; Operating Temperature: -55°C ~ 125°C; Package / Case: 0402 (1005 Metric); Supplier Device Package: 0402; Size / Dimension: 0.039" L x 0.020" W (1.00mm x 0.50mm); Height - Seated (Max): 0.016" (0.40mm); Number of Terminations: 2; Failure Rate: -
footprint SMD-0402-RES
pins: 1, 2

## ERJ-2BSFR16X
designator R?, comment 0.16
RES SMD 0.16 OHM 1% 1/6W 0402; Part Number: ERJ-2BSFR16X; Manufacturer: Panasonic Electronic Components; Factory Stock: 0; Unit Price (USD): 0.10632; @ qty: 1500; Minimum Quantity: 1; Power (Watts): 0.167W, 1/6W; Temperature Coefficient: ±300ppm/°C; Datasheets: https://industrial.panasonic.com/cdbs/www-data/pdf/RDA0000/AOA0000C239.pdf; Image: //media.digikey.com/Photos/Panasonic%20Photos/ERJ-PA2-Series.jpg; Digi-Key Part Number: P.16AKCT-ND; Quantity Available: 6; Packaging: Cut Tape (CT); Series: ERJ; Part Status: Active; Value: 0.16; Tolerance: ±1%; Composition: Thick Film; Features: Automotive AEC-Q200, Current Sense; Operating Temperature: -55°C ~ 125°C; Package / Case: 0402 (1005 Metric); Supplier Device Package: 0402; Size / Dimension: 0.039" L x 0.020" W (1.00mm x 0.50mm); Height - Seated (Max): 0.016" (0.40mm); Number of Terminations: 2; Failure Rate: -
footprint SMD-0402-RES
pins: 1, 2

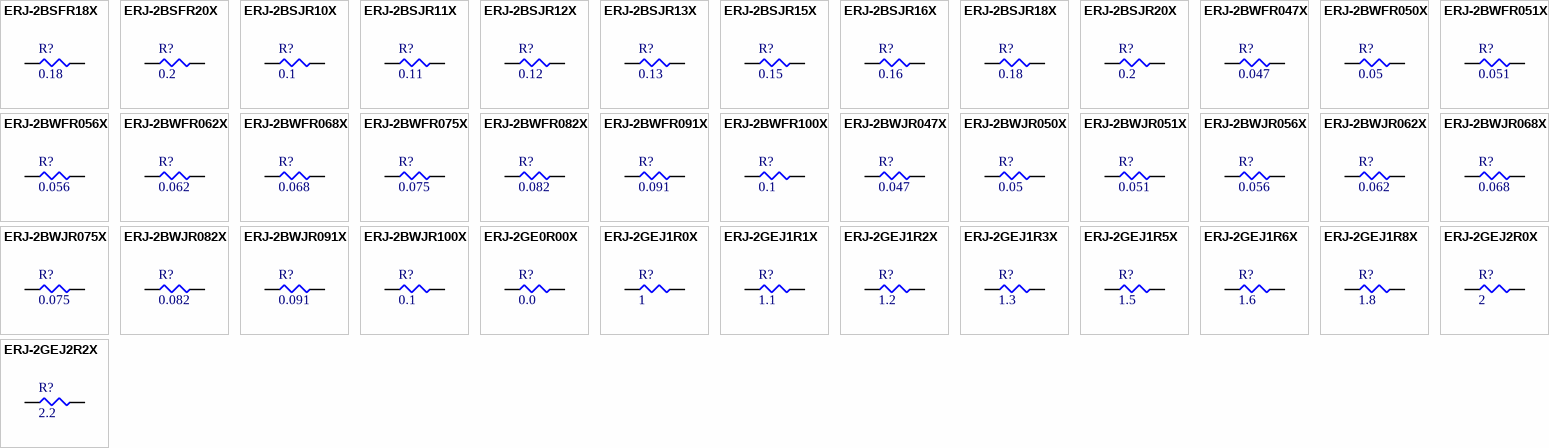
[diagram p1: symbols ERJ-2BSFR18X to ERJ-2GEJ2R2X]

## ERJ-2BSFR18X
designator R?, comment 0.18
RES SMD 0.18 OHM 1% 1/6W 0402; Part Number: ERJ-2BSFR18X; Manufacturer: Panasonic Electronic Components; Factory Stock: 0; Unit Price (USD): 0.10632; @ qty: 1500; Minimum Quantity: 1; Power (Watts): 0.167W, 1/6W; Temperature Coefficient: ±300ppm/°C; Datasheets: https://industrial.panasonic.com/cdbs/www-data/pdf/RDA0000/AOA0000C239.pdf; Image: //media.digikey.com/Photos/Panasonic%20Photos/ERJ-PA2-Series.jpg; Digi-Key Part Number: P.18AKCT-ND; Quantity Available: 22047; Packaging: Cut Tape (CT); Series: ERJ; Part Status: Active; Value: 0.18; Tolerance: ±1%; Composition: Thick Film; Features: Automotive AEC-Q200, Current Sense; Operating Temperature: -55°C ~ 125°C; Package / Case: 0402 (1005 Metric); Supplier Device Package: 0402; Size / Dimension: 0.039" L x 0.020" W (1.00mm x 0.50mm); Height - Seated (Max): 0.016" (0.40mm); Number of Terminations: 2; Failure Rate: -
footprint SMD-0402-RES
pins: 1, 2

## ERJ-2BSFR20X
designator R?, comment 0.2
RES SMD 0.2 OHM 1% 1/6W 0402; Part Number: ERJ-2BSFR20X; Manufacturer: Panasonic Electronic Components; Factory Stock: 0; Unit Price (USD): 0.10632; @ qty: 1500; Minimum Quantity: 1; Power (Watts): 0.167W, 1/6W; Temperature Coefficient: ±300ppm/°C; Datasheets: https://industrial.panasonic.com/cdbs/www-data/pdf/RDA0000/AOA0000C239.pdf; Image: //media.digikey.com/Photos/Panasonic%20Photos/ERJ-PA2-Series.jpg; Digi-Key Part Number: P.20AKCT-ND; Quantity Available: 53586; Packaging: Cut Tape (CT); Series: ERJ; Part Status: Active; Value: 0.2; Tolerance: ±1%; Composition: Thick Film; Features: Automotive AEC-Q200, Current Sense; Operating Temperature: -55°C ~ 125°C; Package / Case: 0402 (1005 Metric); Supplier Device Package: 0402; Size / Dimension: 0.039" L x 0.020" W (1.00mm x 0.50mm); Height - Seated (Max): 0.016" (0.40mm); Number of Terminations: 2; Failure Rate: -
footprint SMD-0402-RES
pins: 1, 2

## ERJ-2BSJR10X
designator R?, comment 0.1
RES SMD 0.1 OHM 5% 1/6W 0402; Part Number: ERJ-2BSJR10X; Manufacturer: Panasonic Electronic Components; Factory Stock: 0; Unit Price (USD): 0.07101; @ qty: 1500; Minimum Quantity: 1; Power (Watts): 0.167W, 1/6W; Temperature Coefficient: ±300ppm/°C; Datasheets: https://industrial.panasonic.com/cdbs/www-data/pdf/RDA0000/AOA0000C239.pdf; Image: //media.digikey.com/Photos/Panasonic%20Photos/ERJ-PA2-Series.jpg; Digi-Key Part Number: P17359CT-ND; Quantity Available: 18255; Packaging: Cut Tape (CT); Series: ERJ; Part Status: Active; Value: 0.1; Tolerance: ±5%; Composition: Thick Film; Features: Automotive AEC-Q200, Current Sense; Operating Temperature: -55°C ~ 125°C; Package / Case: 0402 (1005 Metric); Supplier Device Package: 0402; Size / Dimension: 0.039" L x 0.020" W (1.00mm x 0.50mm); Height - Seated (Max): 0.016" (0.40mm); Number of Terminations: 2; Failure Rate: -
footprint SMD-0402-RES
pins: 1, 2

## ERJ-2BSJR11X
designator R?, comment 0.11
RES SMD 0.11 OHM 5% 1/6W 0402; Part Number: ERJ-2BSJR11X; Manufacturer: Panasonic Electronic Components; Factory Stock: 0; Unit Price (USD): 0.07101; @ qty: 1500; Minimum Quantity: 1; Power (Watts): 0.167W, 1/6W; Temperature Coefficient: ±300ppm/°C; Datasheets: https://industrial.panasonic.com/cdbs/www-data/pdf/RDA0000/AOA0000C239.pdf; Image: //media.digikey.com/Photos/Panasonic%20Photos/ERJ-PA2-Series.jpg; Digi-Key Part Number: P17360CT-ND; Quantity Available: 19901; Packaging: Cut Tape (CT); Series: ERJ; Part Status: Active; Value: 0.11; Tolerance: ±5%; Composition: Thick Film; Features: Automotive AEC-Q200, Current Sense; Operating Temperature: -55°C ~ 125°C; Package / Case: 0402 (1005 Metric); Supplier Device Package: 0402; Size / Dimension: 0.039" L x 0.020" W (1.00mm x 0.50mm); Height - Seated (Max): 0.016" (0.40mm); Number of Terminations: 2; Failure Rate: -
footprint SMD-0402-RES
pins: 1, 2

## ERJ-2BSJR12X
designator R?, comment 0.12
RES SMD 0.12 OHM 5% 1/6W 0402; Part Number: ERJ-2BSJR12X; Manufacturer: Panasonic Electronic Components; Factory Stock: 0; Unit Price (USD): 0.07101; @ qty: 1500; Minimum Quantity: 1; Power (Watts): 0.167W, 1/6W; Temperature Coefficient: ±300ppm/°C; Datasheets: https://industrial.panasonic.com/cdbs/www-data/pdf/RDA0000/AOA0000C239.pdf; Image: //media.digikey.com/Photos/Panasonic%20Photos/ERJ-PA2-Series.jpg; Digi-Key Part Number: P17361CT-ND; Quantity Available: 9750; Packaging: Cut Tape (CT); Series: ERJ; Part Status: Active; Value: 0.12; Tolerance: ±5%; Composition: Thick Film; Features: Automotive AEC-Q200, Current Sense; Operating Temperature: -55°C ~ 125°C; Package / Case: 0402 (1005 Metric); Supplier Device Package: 0402; Size / Dimension: 0.039" L x 0.020" W (1.00mm x 0.50mm); Height - Seated (Max): 0.016" (0.40mm); Number of Terminations: 2; Failure Rate: -
footprint SMD-0402-RES
pins: 1, 2

## ERJ-2BSJR13X
designator R?, comment 0.13
RES SMD 0.13 OHM 5% 1/6W 0402; Part Number: ERJ-2BSJR13X; Manufacturer: Panasonic Electronic Components; Factory Stock: 0; Unit Price (USD): 0.07101; @ qty: 1500; Minimum Quantity: 1; Power (Watts): 0.167W, 1/6W; Temperature Coefficient: ±300ppm/°C; Datasheets: https://industrial.panasonic.com/cdbs/www-data/pdf/RDA0000/AOA0000C239.pdf; Image: //media.digikey.com/Photos/Panasonic%20Photos/ERJ-PA2-Series.jpg; Digi-Key Part Number: P17362CT-ND; Quantity Available: 10000; Packaging: Cut Tape (CT); Series: ERJ; Part Status: Active; Value: 0.13; Tolerance: ±5%; Composition: Thick Film; Features: Automotive AEC-Q200, Current Sense; Operating Temperature: -55°C ~ 125°C; Package / Case: 0402 (1005 Metric); Supplier Device Package: 0402; Size / Dimension: 0.039" L x 0.020" W (1.00mm x 0.50mm); Height - Seated (Max): 0.016" (0.40mm); Number of Terminations: 2; Failure Rate: -
footprint SMD-0402-RES
pins: 1, 2

## ERJ-2BSJR15X
designator R?, comment 0.15
RES SMD 0.15 OHM 5% 1/6W 0402; Part Number: ERJ-2BSJR15X; Manufacturer: Panasonic Electronic Components; Factory Stock: 0; Unit Price (USD): 0.07101; @ qty: 1500; Minimum Quantity: 1; Power (Watts): 0.167W, 1/6W; Temperature Coefficient: ±300ppm/°C; Datasheets: https://industrial.panasonic.com/cdbs/www-data/pdf/RDA0000/AOA0000C239.pdf; Image: //media.digikey.com/Photos/Panasonic%20Photos/ERJ-PA2-Series.jpg; Digi-Key Part Number: P17363CT-ND; Quantity Available: 9944; Packaging: Cut Tape (CT); Series: ERJ; Part Status: Active; Value: 0.15; Tolerance: ±5%; Composition: Thick Film; Features: Automotive AEC-Q200, Current Sense; Operating Temperature: -55°C ~ 125°C; Package / Case: 0402 (1005 Metric); Supplier Device Package: 0402; Size / Dimension: 0.039" L x 0.020" W (1.00mm x 0.50mm); Height - Seated (Max): 0.016" (0.40mm); Number of Terminations: 2; Failure Rate: -
footprint SMD-0402-RES
pins: 1, 2

## ERJ-2BSJR16X
designator R?, comment 0.16
RES SMD 0.16 OHM 5% 1/6W 0402; Part Number: ERJ-2BSJR16X; Manufacturer: Panasonic Electronic Components; Factory Stock: 0; Unit Price (USD): 0.07101; @ qty: 1500; Minimum Quantity: 1; Power (Watts): 0.167W, 1/6W; Temperature Coefficient: ±300ppm/°C; Datasheets: https://industrial.panasonic.com/cdbs/www-data/pdf/RDA0000/AOA0000C239.pdf; Image: //media.digikey.com/Photos/Panasonic%20Photos/ERJ-PA2-Series.jpg; Digi-Key Part Number: P17364CT-ND; Quantity Available: 10000; Packaging: Cut Tape (CT); Series: ERJ; Part Status: Active; Value: 0.16; Tolerance: ±5%; Composition: Thick Film; Features: Automotive AEC-Q200, Current Sense; Operating Temperature: -55°C ~ 125°C; Package / Case: 0402 (1005 Metric); Supplier Device Package: 0402; Size / Dimension: 0.039" L x 0.020" W (1.00mm x 0.50mm); Height - Seated (Max): 0.016" (0.40mm); Number of Terminations: 2; Failure Rate: -
footprint SMD-0402-RES
pins: 1, 2

## ERJ-2BSJR18X
designator R?, comment 0.18
RES SMD 0.18 OHM 5% 1/6W 0402; Part Number: ERJ-2BSJR18X; Manufacturer: Panasonic Electronic Components; Factory Stock: 0; Unit Price (USD): 0.07101; @ qty: 1500; Minimum Quantity: 1; Power (Watts): 0.167W, 1/6W; Temperature Coefficient: ±300ppm/°C; Datasheets: https://industrial.panasonic.com/cdbs/www-data/pdf/RDA0000/AOA0000C239.pdf; Image: //media.digikey.com/Photos/Panasonic%20Photos/ERJ-PA2-Series.jpg; Digi-Key Part Number: P17365CT-ND; Quantity Available: 10000; Packaging: Cut Tape (CT); Series: ERJ; Part Status: Active; Value: 0.18; Tolerance: ±5%; Composition: Thick Film; Features: Automotive AEC-Q200, Current Sense; Operating Temperature: -55°C ~ 125°C; Package / Case: 0402 (1005 Metric); Supplier Device Package: 0402; Size / Dimension: 0.039" L x 0.020" W (1.00mm x 0.50mm); Height - Seated (Max): 0.016" (0.40mm); Number of Terminations: 2; Failure Rate: -
footprint SMD-0402-RES
pins: 1, 2

## ERJ-2BSJR20X
designator R?, comment 0.2
RES SMD 0.2 OHM 5% 1/6W 0402; Part Number: ERJ-2BSJR20X; Manufacturer: Panasonic Electronic Components; Factory Stock: 0; Unit Price (USD): 0.07101; @ qty: 1500; Minimum Quantity: 1; Power (Watts): 0.167W, 1/6W; Temperature Coefficient: ±300ppm/°C; Datasheets: https://industrial.panasonic.com/cdbs/www-data/pdf/RDA0000/AOA0000C239.pdf; Image: //media.digikey.com/Photos/Panasonic%20Photos/ERJ-PA2-Series.jpg; Digi-Key Part Number: P17366CT-ND; Quantity Available: 9468; Packaging: Cut Tape (CT); Series: ERJ; Part Status: Active; Value: 0.2; Tolerance: ±5%; Composition: Thick Film; Features: Automotive AEC-Q200, Current Sense; Operating Temperature: -55°C ~ 125°C; Package / Case: 0402 (1005 Metric); Supplier Device Package: 0402; Size / Dimension: 0.039" L x 0.020" W (1.00mm x 0.50mm); Height - Seated (Max): 0.016" (0.40mm); Number of Terminations: 2; Failure Rate: -
footprint SMD-0402-RES
pins: 1, 2

## ERJ-2BWFR047X
designator R?, comment 0.047
RES SMD 0.047 OHM 1% 1/4W 0402; Part Number: ERJ-2BWFR047X; Manufacturer: Panasonic Electronic Components; Factory Stock: 0; Unit Price (USD): 0.14280; @ qty: 1500; Minimum Quantity: 1; Power (Watts): 0.25W, 1/4W; Temperature Coefficient: ±300ppm/°C; Datasheets: https://industrial.panasonic.com/cdbs/www-data/pdf/RDA0000/AOA0000C239.pdf; Image: //media.digikey.com/Photos/Panasonic%20Photos/ERJ-PA2-Series.jpg; Digi-Key Part Number: P.047ATCT-ND; Quantity Available: 28112; Packaging: Cut Tape (CT); Series: ERJ; Part Status: Active; Value: 0.047; Tolerance: ±1%; Composition: Thick Film; Features: Automotive AEC-Q200, Current Sense; Operating Temperature: -55°C ~ 155°C; Package / Case: 0402 (1005 Metric); Supplier Device Package: 0402; Size / Dimension: 0.039" L x 0.020" W (1.00mm x 0.50mm); Height - Seated (Max): 0.016" (0.40mm); Number of Terminations: 2; Failure Rate: -
footprint SMD-0402-RES
pins: 1, 2

## ERJ-2BWFR050X
designator R?, comment 0.05
RES SMD 0.05 OHM 1% 1/4W 0402; Part Number: ERJ-2BWFR050X; Manufacturer: Panasonic Electronic Components; Factory Stock: 0; Unit Price (USD): 0.10320; @ qty: 1500; Minimum Quantity: 1; Power (Watts): 0.25W, 1/4W; Temperature Coefficient: ±300ppm/°C; Datasheets: https://industrial.panasonic.com/cdbs/www-data/pdf/RDA0000/AOA0000C239.pdf; Image: //media.digikey.com/Photos/Panasonic%20Photos/ERJ-PA2-Series.jpg; Digi-Key Part Number: P17367CT-ND; Quantity Available: 23606; Packaging: Cut Tape (CT); Series: ERJ; Part Status: Active; Value: 0.05; Tolerance: ±1%; Composition: Thick Film; Features: Automotive AEC-Q200, Current Sense; Operating Temperature: -55°C ~ 155°C; Package / Case: 0402 (1005 Metric); Supplier Device Package: 0402; Size / Dimension: 0.039" L x 0.020" W (1.00mm x 0.50mm); Height - Seated (Max): 0.016" (0.40mm); Number of Terminations: 2; Failure Rate: -
footprint SMD-0402-RES
pins: 1, 2